# Altium footprint library Inductors SMD.PcbLib: 67 footprints (part 4 of 5)
Each footprint in its own frame and in the unit in brackets; x right, y up, seen from the top. Pads: shape width x height; smd on the part's side, far side on the other; paste and mask are expansions set on the pad; w line width, h text height; cw(c..) or ccw(c..) is an arc to the next point about the centre after c.
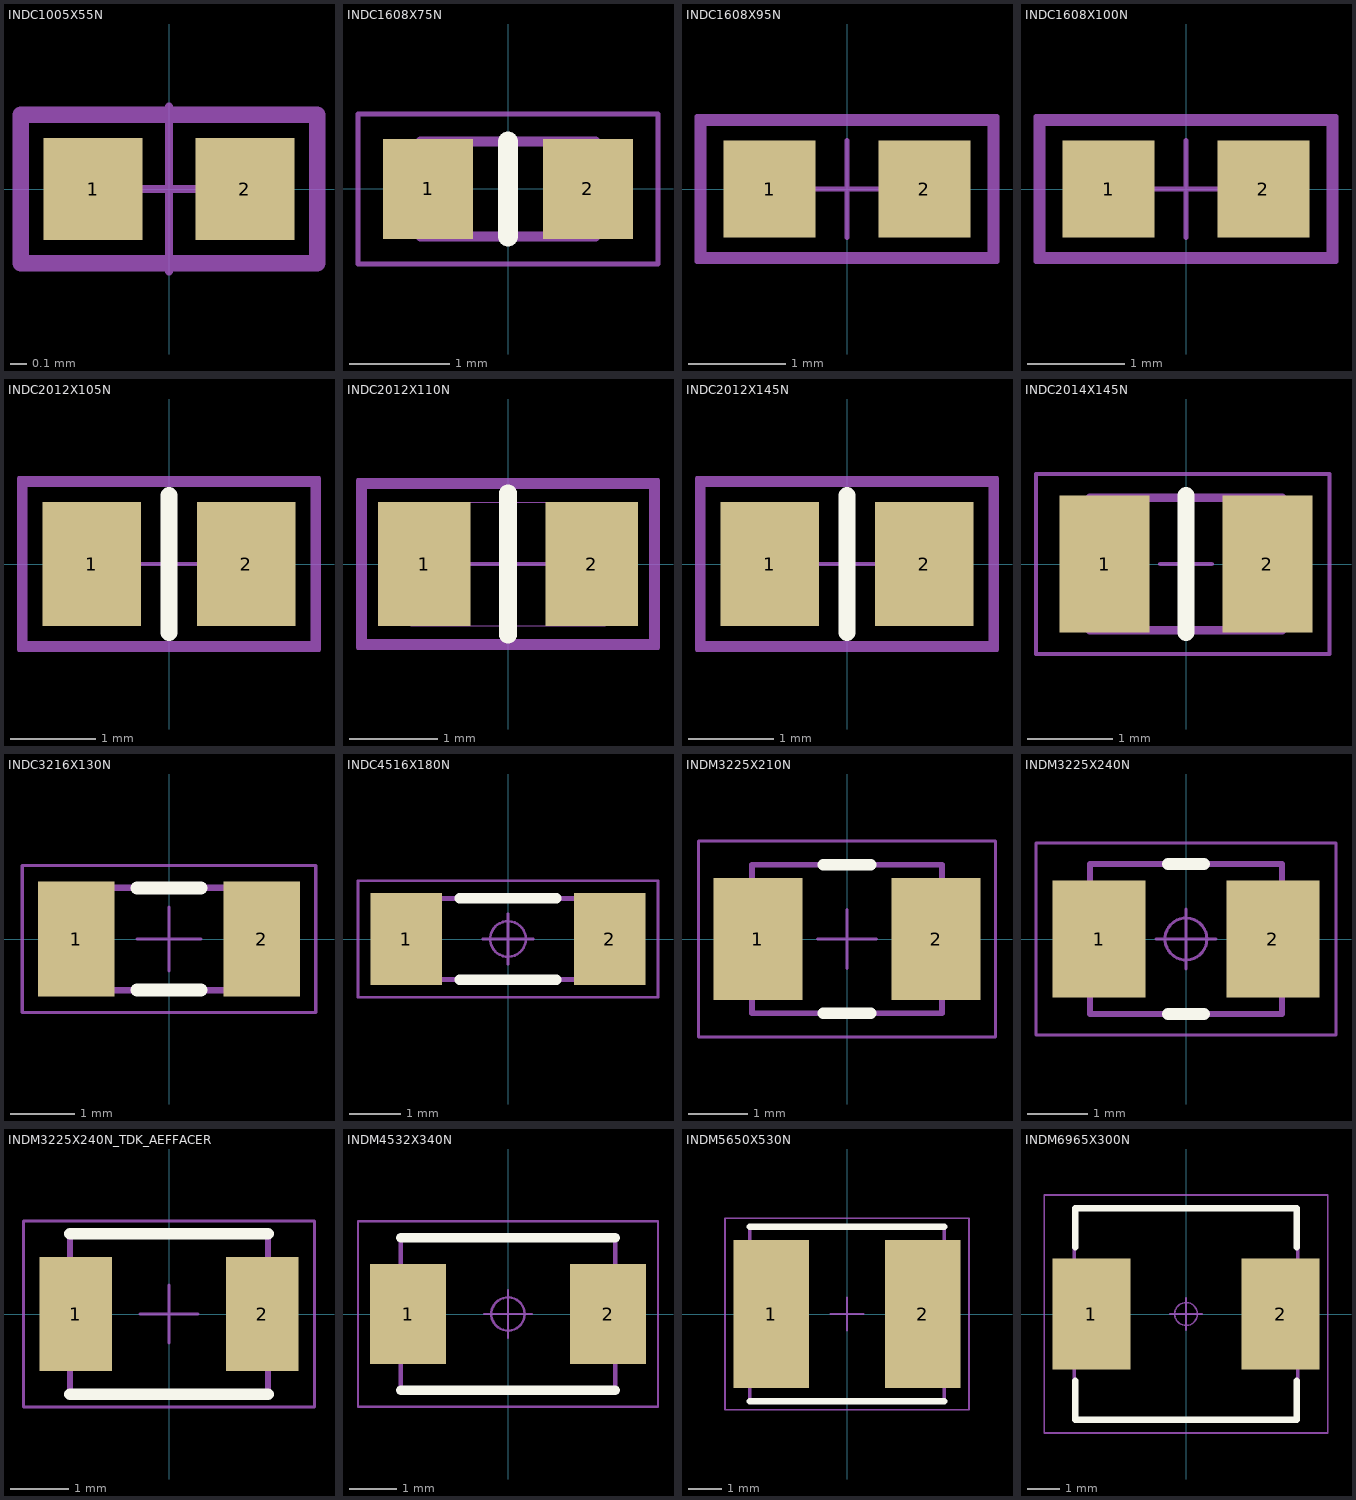
[diagram p3: the footprints below, top view; thin cyan lines are the x and y axes]

## INDC1005X55N [mm] "Chip Inductor, 2-Leads, EIA 0402, Metric 1005, Body 1x0.5mm, 0402IPC Medium Density"
height 0.55
pads (2):
  rect 0.6x0.62 smd: 1(-0.46,0) 2(0.46,0)
Mechanical 14:
  lines w0.1: -0.9,-0.45 -0.9,0.45 0.9,0.45 0.9,-0.45 -0.9,-0.45
Mechanical 15:
  lines w0.05: -0.5,0 0.5,0 ; 0,-0.5 0,0.5 ; -0.91,-0.46 -0.91,0.46 0.91,0.46 0.91,-0.46 -0.91,-0.46
3D body "INDC1005X55N.stp": height 0.55, standoff 0, extent -0.525,-0.275 0.525,0.275

## INDC1608X75N [mm] "Chip Inductor, 2-Leads, EIA 0603, Metric 1608, Body 1.6x0.8mm, IPC Medium Density"
height 0.75
pads (2):
  rect 0.9x1 smd: 1(-0.8,0) 2(0.8,0)
Top Overlay:
  lines w0.2: 0,-0.475 0,0.475
Mechanical 8:
  lines w0.025: -0.575,-0.475 -0.575,0.475 ; 0.575,-0.475 0.575,0.475 ; -0.875,-0.475 -0.875,0.475 0.875,0.475 0.875,-0.475 -0.875,-0.475
Mechanical 14:
  lines w0.1: -0.875,-0.475 0.875,-0.475 0.875,0.475 -0.875,0.475 -0.875,-0.475
Mechanical 15:
  lines w0.05: -1.5,-0.75 1.5,-0.75 1.5,0.75 -1.5,0.75 -1.5,-0.75
3D body "INDC1608X75N.stp": height 0.7, standoff -0.05, extent -0.875,-0.475 0.875,0.475

## INDC1608X95N [mm] "Chip Inductor, 2-Leads, EIA 0603, Metric 1608, Body 1.6x0.8mm, IPC Medium Density"
height 0.95
pads (2):
  rect 0.95x1 smd: 1(-0.8,0) 2(0.8,0)
Mechanical 14:
  lines w0.1: -1.5,-0.7 1.5,-0.7 1.5,0.7 -1.5,0.7 -1.5,-0.7
Mechanical 15:
  lines w0.05: -0.5,0 0.5,0 ; 0,-0.5 0,0.5 ; -1.55,-0.75 1.55,-0.75 1.55,0.75 -1.55,0.75 -1.55,-0.75
3D body "INDC1608X95N.stp": height 0.95, standoff -0.05, extent -0.875,-0.475 0.875,0.475

## INDC1608X100N [mm] "Chip Inductor, 2-Leads, EIA 0603, Metric 1608, Body 1.6x0.8mm, IPC Medium Density"
height 1
pads (2):
  rect 0.95x1 smd: 1(-0.8,0) 2(0.8,0)
Mechanical 14:
  lines w0.1: -1.5,-0.7 -1.5,0.7 1.5,0.7 1.5,-0.7 -1.5,-0.7
Mechanical 15:
  lines w0.05: -0.5,0 0.5,0 ; 0,-0.5 0,0.5 ; -1.55,-0.75 -1.55,0.75 1.55,0.75 1.55,-0.75 -1.55,-0.75
3D body "INDC1608X100N.stp": height 1, standoff -0.05, extent -0.875,-0.475 0.875,0.475

## INDC2012X105N [mm] "Chip Inductor, EIA 0805, Metric 2012, Body 2.0x1.25mm, IPC Medium Density"
height 1.05
pads (2):
  rect 1.15x1.45 smd: 1(-0.9,0) 2(0.9,0)
Top Overlay:
  lines w0.2: 0,-0.8 0,0.8
Mechanical 14:
  lines w0.1: -1.7,-0.95 1.7,-0.95 1.7,0.95 -1.7,0.95 -1.7,-0.95
Mechanical 15:
  lines w0.05: -0.5,0 0.5,0 ; 0,-0.5 0,0.5 ; -1.75,-1 1.75,-1 1.75,1 -1.75,1 -1.75,-1
3D body "INDC2012X110N.stp": height 1.1, standoff 0, extent -1.1,-0.7 1.1,0.7

## INDC2012X110N [mm] "Chip Inductor, EIA 0805, Metric 2012, Body 2.0x1.2mm, IPC Medium Density"
height 1.1
pads (2):
  rect 1.05x1.4 smd: 1(-0.95,0) 2(0.95,0)
Top Overlay:
  lines w0.2: 0,-0.8 0,0.8
Mechanical 14:
  lines w0.1: -1.65,-0.9 -1.65,0.9 1.65,0.9 1.65,-0.9 -1.65,-0.9
Mechanical 15:
  lines w0.001: -1.1,-0.7 -1.1,0.7 1.1,0.7 1.1,-0.7 -1.1,-0.7
  lines w0.05: -0.5,0 0.5,0 ; 0,-0.5 0,0.5 ; -1.7,-0.95 -1.7,0.95 1.7,0.95 1.7,-0.95 -1.7,-0.95
3D body "INDC2012X110N.stp": height 1.1, standoff 0, extent -1,-0.625 1,0.625

## INDC2012X145N [mm] "Chip Inductor, EIA 0805, Metric 2012, Body 2.0x1.25mm, IPC Medium Density"
height 1.45
pads (2):
  rect 1.15x1.45 smd: 1(-0.9,0) 2(0.9,0)
Top Overlay:
  lines w0.2: 0,-0.8 0,0.8
Mechanical 14:
  lines w0.1: -1.7,-0.95 -1.7,0.95 1.7,0.95 1.7,-0.95 -1.7,-0.95
Mechanical 15:
  lines w0.05: -0.5,0 0.5,0 ; 0,-0.5 0,0.5 ; -1.75,-1 -1.75,1 1.75,1 1.75,-1 -1.75,-1
3D body "INDC2012X145N.stp": height 1.45, standoff 0, extent -1,-0.625 1,0.625

## INDC2014X145N [mm] "Chip Inductor, EIA 0805, Metric 2014, Body 2.05x1.4mm, IPC Medium Density"
height 1.45
pads (2):
  rect 1.05x1.6 smd: 1(-0.95,0) 2(0.95,0)
Top Overlay:
  lines w0.2: 0,-0.8 0,0.8
Mechanical 13:
  lines w0.1: -1.125,-0.775 -1.125,0.775 1.125,0.775 1.125,-0.775 -1.125,-0.775
Mechanical 14:
  lines w0.1: -1.125,-0.775 -1.125,0.775 1.125,0.775 1.125,-0.775 -1.125,-0.775
Mechanical 15:
  lines w0.05: -0.3,0 0.3,0 ; 0,-0.3 0,0.3 ; -1.75,-1.05 -1.75,1.05 1.675,1.05 1.675,-1.05 -1.75,-1.05
3D body "INDC2014X145N.stp": height 1.45, standoff 0, extent -0.995,-0.662 1.205,0.738

## INDC3216X130N [mm] "Chip Inductor, EIA 1206, Metric 3216, 3.20mm L X 1.60mm W, IPC Medium Density"
height 1.3
pads (2):
  rect 1.2x1.8 smd: 1(-1.45,0) 2(1.45,0)
Top Overlay:
  lines w0.2: -0.5,-0.8 0.5,-0.8 ; -0.5,0.8 0.5,0.8
Mechanical 14:
  lines w0.1: -1.6,-0.8 1.6,-0.8 1.6,0.8 -1.6,0.8 -1.6,-0.8
Mechanical 15:
  lines w0.05: -0.5,0 0.5,0 ; 0,-0.5 0,0.5 ; -2.3,-1.15 2.3,-1.15 2.3,1.15 -2.3,1.15 -2.3,-1.15
3D body "INDC3216X130N.stp": height 1.3, standoff 0, extent -1.7,-0.9 1.7,0.9

## INDC4516X180N [mm] "Inductor, Chip; 4.50mm L X 1.60mm W X 1.80mm H, IPC Medium Density"
height 1.8
pads (2):
  rect 1.4x1.8 smd: 1(-2,0) 2(2,0)
Top Overlay:
  lines w0.2: -0.95,-0.8 0.95,-0.8 ; -0.95,0.8 0.95,0.8
Mechanical 14:
  lines w0.1: -2.25,-0.8 2.25,-0.8 2.25,0.8 -2.25,0.8 -2.25,-0.8
Mechanical 15:
  circle w0.05: c0,0 r0.35
  circle w0.05: c0,0 r0.35
  lines w0.05: -2.95,-1.15 2.95,-1.15 ; -2.95,-1.15 -2.95,1.15 ; -2.95,-1.15 2.95,-1.15 ; -2.95,-1.15 -2.95,1.15 ; -2.95,1.15 2.95,1.15 ; -2.95,1.15 2.95,1.15 ; 2.95,-1.15 2.95,1.15 ; 2.95,-1.15 2.95,1.15 ; -0.5,0 0.5,0 -0.5,0 ; 0,-0.5 0,0.5 0,-0.5
3D body "INDC4516X180N.stp": height 1.8, standoff 0, extent -2.25,-0.8 2.25,0.8

## INDM3225X210N [mm] "Inductor, Molded Body; 3.20mm L X 2.50mm W, IPC Medium Density"
height 2.1
pads (2):
  rect 1.5x2.05 smd: 1(-1.5,0) 2(1.5,0)
Top Overlay:
  lines w0.2: -0.4,-1.25 0.4,-1.25 ; -0.4,1.25 0.4,1.25
Mechanical 14:
  lines w0.1: -1.6,-1.25 -1.6,1.25 1.6,1.25 1.6,-1.25 -1.6,-1.25
Mechanical 15:
  lines w0.05: -0.5,0 0.5,0 ; 0,-0.5 0,0.5 ; -2.5,-1.65 -2.5,1.65 2.5,1.65 2.5,-1.65 -2.5,-1.65
3D body "INDM3225X210N.stp": height 2.1, standoff 0, extent -1.7,-1.35 1.7,1.35

## INDM3225X240N [mm] "Inductor, Molded Body; 3.20mm L X 2.50mm W, IPC Medium Density"
height 2.4
pads (2):
  rect 1.55x1.95 smd: 1(-1.45,0) 2(1.45,0)
Top Overlay:
  lines w0.2: -0.3,-1.25 0.3,-1.25 ; -0.3,1.25 0.3,1.25
Mechanical 14:
  lines w0.1: -1.6,-1.25 -1.6,1.25 1.6,1.25 1.6,-1.25 -1.6,-1.25
Mechanical 15:
  circle w0.05: c0,0 r0.35
  lines w0.05: -0.5,0 0.5,0 ; 0,-0.5 0,0.5 ; -2.5,-1.6 -2.5,1.6 2.5,1.6 2.5,-1.6 -2.5,-1.6
3D body "IND_EPCOS_B82422H.stp": height 2.4, standoff 0, extent -1.7,-1.35 1.7,1.35

## INDM3225X240N_TDK_AEFFACER [mm] "Inductor, Molded Body; 3.20mm L X 2.50mm W, IPC Medium Density"
height 2.4
pads (2):
  rect 1.25x1.95 smd: 1(-1.6,0) 2(1.6,0)
Top Overlay:
  lines w0.2: -1.7,-1.375 1.7,-1.375 ; -1.7,1.375 1.7,1.375
Mechanical 14:
  lines w0.1: -1.7,-1.35 -1.7,1.35 1.7,1.35 1.7,-1.35 -1.7,-1.35
Mechanical 15:
  lines w0.05: -0.5,0 0.5,0 ; 0,-0.5 0,0.5 ; -2.5,-1.6 -2.5,1.6 2.5,1.6 2.5,-1.6 -2.5,-1.6
3D body "INDM3225X240N.stp": height 2.4, standoff 0, extent -1.7,-1.35 1.7,1.35

## INDM4532X340N [mm] "Inductor, Molded Body; 4.5mm L X 3.2mm W, IPC Medium Density"
height 3.4
pads (2):
  rect 1.6x2.1 smd: 1(-2.1,0) 2(2.1,0)
Top Overlay:
  lines w0.2: -2.25,-1.6 2.25,-1.6 ; -2.25,1.6 2.25,1.6
Mechanical 14:
  lines w0.1: -2.25,-1.6 2.25,-1.6 2.25,1.6 -2.25,1.6 -2.25,-1.6
Mechanical 15:
  circle w0.05: c0,0 r0.35
  lines w0.05: -0.5,0 0.5,0 ; 0,-0.5 0,0.5 ; -3.15,-1.95 3.15,-1.95 3.15,1.95 -3.15,1.95 -3.15,-1.95
3D body "INDM4532X340N.stp": height 3.4, standoff 0, extent -2.25,-1.6 2.25,1.6

## INDM5650X530N [mm] "Molded Inductor, 2-Leads, Body 5.6x5.0mm, IPC Medium Density"
height 5.3
pads (2):
  rect 2.3x4.5 smd: 1(-2.3,0) 2(2.3,0)
Top Overlay:
  lines w0.2: -2.95,-2.65 2.95,-2.65 ; -2.95,2.65 2.95,2.65
Mechanical 14:
  lines w0.1: -2.95,-2.65 2.95,-2.65 2.95,2.65 -2.95,2.65 -2.95,-2.65
Mechanical 15:
  lines w0.05: -0.5,0 0.5,0 ; 0,-0.5 0,0.5 ; -3.7,-2.9 3.7,-2.9 3.7,2.9 -3.7,2.9 -3.7,-2.9
3D body "INDM5650X530N.stp": height 5.3, standoff 0, extent -2.95,-2.65 2.85,2.65

## INDM6965X300N [mm] "Inductor Molded Body, Body 6.86mm L X 6.47mm W X 3mm H, IPC Medium Density"
height 3
pads (2):
  rect 2.4x3.4 smd: 1(-2.9,0) 2(2.9,0)
Top Overlay:
  lines w0.2: -3.4,-2.05 -3.4,-3.25 3.4,-3.25 3.4,-2.05 ; -3.4,2.05 -3.4,3.25 3.4,3.25 3.4,2.05
Mechanical 14:
  lines w0.1: -3.43,-3.235 3.43,-3.235 3.43,3.235 -3.43,3.235 -3.43,-3.235
Mechanical 15:
  circle w0.05: c0,0 r0.35
  lines w0.05: -0.5,0 0.5,0 ; 0,-0.5 0,0.5 ; -4.35,-3.65 4.35,-3.65 4.35,3.65 -4.35,3.65 -4.35,-3.65
3D body "INDM_VISHAY_IHLP2525CZ.stp": height 3, standoff 0, extent -3.62,-3.36 3.62,3.36